# Altium footprint library Pollux III.PcbLib: 36 footprints (part 2 of 3)
Each footprint in its own frame and in the unit in brackets; x right, y up, seen from the top. Pads: shape width x height; smd on the part's side, far side on the other; paste and mask are expansions set on the pad; w line width, h text height; cw(c..) or ccw(c..) is an arc to the next point about the centre after c.
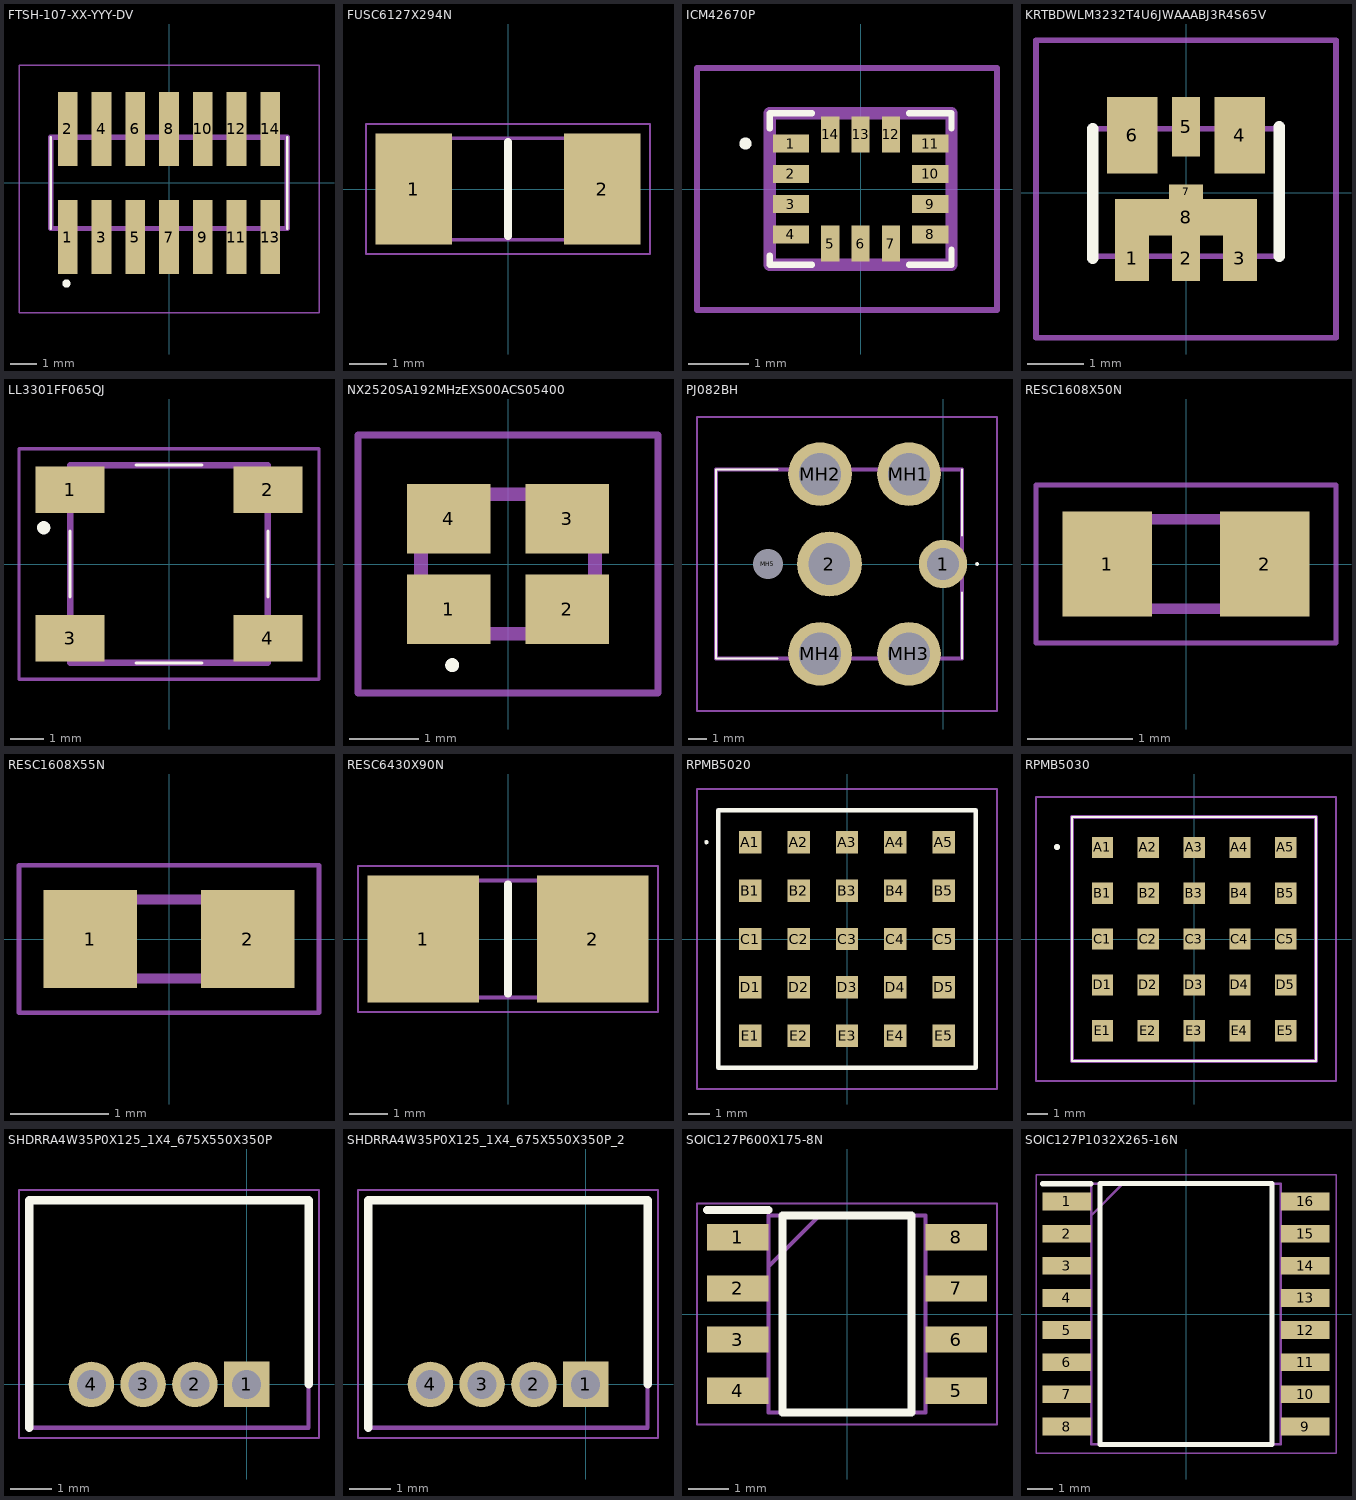
[diagram p1: the footprints below, top view; thin cyan lines are the x and y axes]

## FTSH-107-XX-YYY-DV [mm]
pads (14):
  rect 0.74x2.79 smd: 1(-3.81,-2.035) 2(-3.81,2.035) 3(-2.54,-2.035) 4(-2.54,2.035) 5(-1.27,-2.035) 6(-1.27,2.035) 7(0,-2.035) 8(0,2.035) 9(1.27,-2.035) 10(1.27,2.035) 11(2.54,-2.035) 12(2.54,2.035) 13(3.81,-2.035) 14(3.81,2.035)
Top Overlay:
  circle w0.2: c-3.86,-3.785 r0.05
  lines w0.1: -4.445,-1.715 -4.445,1.715 ; 4.445,-1.715 4.445,1.715
Mechanical 13:
  lines w0.2: -4.445,-1.715 -4.445,1.715 4.445,1.715 4.445,-1.715 -4.445,-1.715
Mechanical 15:
  lines w0.05: -5.645,-4.885 -5.645,4.43 5.645,4.43 5.645,-4.885 -5.645,-4.885
3D body "FTSH-107-01-F-DV.stp": height 5.96, standoff -0.01, extent -4.42,-2.997 4.47,2.845

## FUSC6127X294N [mm]
pads (2):
  rect 2.02x2.95 smd: 1(-2.5,0) 2(2.5,0)
Top Overlay:
  lines w0.2: 0,-1.245 0,1.245
Mechanical 13:
  lines w0.1: -3.05,-1.345 -3.05,1.345 3.05,1.345 3.05,-1.345 -3.05,-1.345
Mechanical 15:
  lines w0.05: -3.76,-1.725 -3.76,1.725 3.76,1.725 3.76,-1.725 -3.76,-1.725
3D body "0451020.MRL.stp": height 2.94, standoff 0, extent -3.05,-1.345 3.05,1.345

## ICM42670P [mm]
pads (14):
  rect 0.6x0.3 smd: 1(-1.15,0.75) 2(-1.15,0.25) 3(-1.15,-0.25) 4(-1.15,-0.75) 8(1.15,-0.75) 9(1.15,-0.25) 10(1.15,0.25) 11(1.15,0.75)
  rect 0.3x0.6 smd: 5(-0.5,-0.9) 6(0,-0.9) 7(0.5,-0.9) 12(0.5,0.9) 13(0,0.9) 14(-0.5,0.9)
Top Overlay:
  lines w0.1: -1.5,-1.1 -1.5,-1.25 -0.8,-1.25 ; -1.5,1 -1.5,1.25 -0.8,1.25 ; 0.8,-1.25 1.5,-1.25 1.5,-1 ; 0.8,1.25 1.5,1.25 1.5,1 ; -1.9,0.7 cw(c-1.9,0.75) -1.9,0.8 cw(c-1.9,0.75) -1.9,0.7
Mechanical 13:
  lines w0.2: -1.5,-1.25 1.5,-1.25 1.5,1.25 -1.5,1.25 -1.5,-1.25
Mechanical 15:
  lines w0.1: -2.7,-2 2.25,-2 2.25,2 -2.7,2 -2.7,-2
3D body "ICM-42670-P.stp": height 0.65, standoff -0.11, extent -1.5,-1.25 1.5,1.25

## KRTBDWLM3232T4U6JWAAABJ3R4S65V [mm]
pads (8):
  rect 0.6x0.8 smd: 1(-0.95,-1.162) 3(0.95,-1.162)
  rect 0.5x0.8 smd: 2(0,-1.162)
  rect 0.9x1.35 smd: 4(0.95,1.012) 6(-0.95,1.012)
  rect 0.5x1.05 smd: 5(0,1.162)
  rect 0.6x0.25 smd: 7(0,0.013)
  rect 2.5x0.65 smd: 8(0,-0.437)
Top Overlay:
  lines w0.2: -1.65,-1.162 -1.65,1.125 ; 1.65,-1.125 1.65,1.162
Mechanical 13:
  lines w0.1: -1.65,-1.125 -1.65,1.125 1.65,1.125 1.65,-1.125 -1.65,-1.125
Mechanical 15:
  lines w0.1: -2.65,-2.563 -2.65,2.688 2.65,2.688 2.65,-2.563 -2.65,-2.563
3D body "KRTB_DWLM32_32_20190603_geometry.STEP": height 0.7, standoff 0, extent -1.65,-1.112 1.65,1.138

## LL3301FF065QJ [mm]
pads (4):
  rect 2.1x1.4 smd: 1(-3,2.25) 2(3,2.25) 3(-3,-2.25) 4(3,-2.25)
Top Overlay:
  lines w0.1: -3,-1 -3,1 ; -1,-3 1,-3 ; -1,3 1,3 ; 3,-1 3,1
  lines w0.2: -3.8,1 cw(c-3.8,1.1) -3.8,1.2 cw(c-3.8,1.1) -3.8,1
Mechanical 13:
  lines w0.2: -3,-3 3,-3 3,3 -3,3 -3,-3
Mechanical 15:
  lines w0.1: -4.55,-3.5 4.55,-3.5 4.55,3.5 -4.55,3.5 -4.55,-3.5
3D body "LL3301_SMD_Button.step": height 3.8, standoff -0.5, extent -5,-3 5,3

## NX2520SA192MHzEXS00ACS05400 [mm]
pads (4):
  rect 1.2x1 smd: 1(-0.85,-0.65) 2(0.85,-0.65) 3(0.85,0.65) 4(-0.85,0.65)
Top Overlay:
  lines w0.1: -0.8,-1.5 cw(c-0.8,-1.45) -0.8,-1.4 cw(c-0.8,-1.45) -0.8,-1.5
Mechanical 13:
  lines w0.2: -1.25,-1 1.25,-1 1.25,1 -1.25,1 -1.25,-1
Mechanical 15:
  lines w0.1: -2.15,-1.85 2.15,-1.85 2.15,1.85 -2.15,1.85 -2.15,-1.85
3D body "NX2520SA-25.000M-STD-CSW-5.stp": height 0.65, standoff 0, extent -1.35,-1.05 1.35,1.05

## PJ082BH [mm]
pads (7):
  round 2.55 hole 1.7: 1(0,0)
  round 3.42 hole 2.193: 2(-6,0)
  round 3.36 hole 2.24: MH1(-1.8,4.75) MH2(-6.5,4.75) MH3(-1.8,-4.75) MH4(-6.5,-4.75)
  round 0.8 hole 1.6 unplated: MH5(-9.25,0)
Top Overlay:
  lines w0.1: -8.75,-5 -12,-5 -12,5 -8.75,5 ; 1,-5 1,-1.5 ; 1,1.5 1,5 ; 1.75,0 ccw(c1.8,0) 1.85,0 ccw(c1.8,0) 1.75,0
Mechanical 13:
  lines w0.2: -12,-5 1,-5 1,5 -12,5 -12,-5
Mechanical 15:
  lines w0.1: -13,-7.76 2.85,-7.76 2.85,7.76 -13,7.76 -13,-7.76
3D body "CUI_DEVICES_PJ-082BH.step": height 9.55, standoff -2.65, extent -12.114,-5.1 1.016,5.1

## RESC1608X50N [mm]
pads (2):
  rect 0.85x1 smd: 1(-0.75,0) 2(0.75,0)
Mechanical 13:
  lines w0.1: -0.788,-0.425 0.788,-0.425 0.788,0.425 -0.788,0.425 -0.788,-0.425
Mechanical 15:
  lines w0.05: -1.425,-0.75 1.425,-0.75 1.425,0.75 -1.425,0.75 -1.425,-0.75
3D body "CRCW0603118KFKEA.stp": height 0.5, standoff 0, extent -0.787,-0.425 0.787,0.425

## RESC1608X55N [mm]
pads (2):
  rect 0.95x1 smd: 1(-0.8,0) 2(0.8,0)
Mechanical 13:
  lines w0.1: -0.8,-0.4 0.8,-0.4 0.8,0.4 -0.8,0.4 -0.8,-0.4
Mechanical 15:
  lines w0.05: -1.525,-0.75 1.525,-0.75 1.525,0.75 -1.525,0.75 -1.525,-0.75
3D body "ERA-3ARB332V.stp": height 0.55, standoff 0, extent -0.8,-0.4 0.8,0.4

## RESC6430X90N [mm]
pads (2):
  rect 2.9x3.3 smd: 1(-2.2,0) 2(2.2,0)
Top Overlay:
  lines w0.2: 0,-1.425 0,1.425
Mechanical 13:
  lines w0.1: -3.175,-1.525 -3.175,1.525 3.175,1.525 3.175,-1.525 -3.175,-1.525
Mechanical 15:
  lines w0.05: -3.9,-1.9 -3.9,1.9 3.9,1.9 3.9,-1.9 -3.9,-1.9
3D body "PCS2512FR0010ET.stp": height 0.9, standoff 0, extent -3.175,-1.525 3.175,1.525

## RPMB5020 [mm]
pads (25):
  rect 1.06x1.06 smd: A1(-4.58,4.58) A2(-2.29,4.58) A3(0,4.58) A4(2.29,4.58) A5(4.58,4.58) B1(-4.58,2.29) B2(-2.29,2.29) B3(0,2.29) B4(2.29,2.29) B5(4.58,2.29) C1(-4.58,0) C2(-2.29,0) C3(0,0) C4(2.29,0) C5(4.58,0) D1(-4.58,-2.29) D2(-2.29,-2.29) D3(0,-2.29) D4(2.29,-2.29) D5(4.58,-2.29) E1(-4.58,-4.58) E2(-2.29,-4.58) E3(0,-4.58) E4(2.29,-4.58) E5(4.58,-4.58)
Top Overlay:
  lines w0.1: -6.7,4.58 ccw(c-6.65,4.58) -6.6,4.58 ccw(c-6.65,4.58) -6.7,4.58
  lines w0.2: -6.095,-6.095 -6.095,6.095 6.095,6.095 6.095,-6.095 -6.095,-6.095
Mechanical 13:
  lines w0.1: -6.095,-6.095 -6.095,6.095 6.095,6.095 6.095,-6.095 -6.095,-6.095
Mechanical 15:
  lines w0.1: -7.095,-7.095 -7.095,7.095 7.095,7.095 7.095,-7.095 -7.095,-7.095
3D body "RPMB5.0-2.0.stp": height 4.1, standoff 0, extent -6.095,-6.095 6.095,6.095

## RPMB5030 [mm]
pads (25):
  rect 1.06x1.06 smd: A1(-4.58,4.58) A2(-2.29,4.58) A3(0,4.58) A4(2.29,4.58) A5(4.58,4.58) B1(-4.58,2.29) B2(-2.29,2.29) B3(0,2.29) B4(2.29,2.29) B5(4.58,2.29) C1(-4.58,0) C2(-2.29,0) C3(0,0) C4(2.29,0) C5(4.58,0) D1(-4.58,-2.29) D2(-2.29,-2.29) D3(0,-2.29) D4(2.29,-2.29) D5(4.58,-2.29) E1(-4.58,-4.58) E2(-2.29,-4.58) E3(0,-4.58) E4(2.29,-4.58) E5(4.58,-4.58)
Top Overlay:
  lines w0.1: -6.1,-6.09 -6.1,6.1 6.09,6.1 6.09,-6.09 -6.1,-6.09
  lines w0.2: -6.905,4.605 ccw(c-6.855,4.605) -6.805,4.605 ; -6.905,4.605 cw(c-6.855,4.605) -6.805,4.605 ; -6.905,4.605 ccw(c-6.855,4.605) -6.805,4.605
Mechanical 13:
  lines w0.2: -6.1,-6.09 -6.1,6.1 6.09,6.1 6.09,-6.09 -6.1,-6.09
Mechanical 15:
  lines w0.1: -7.905,-7.09 -7.905,7.1 7.09,7.1 7.09,-7.09 -7.905,-7.09
3D body "RPMB-3.0.step": height 3.95, standoff -0.02, extent -6.345,-6.192 6.345,6.198

## SHDRRA4W35P0X125_1X4_675X550X350P [mm]
pads (4):
  rect 1.1x1.1 hole 0.7: 1(0,0)
  round 1.1 hole 0.7: 2(-1.25,0) 3(-2.5,0) 4(-3.75,0)
Top Overlay:
  lines w0.2: -5.25,-1.05 -5.25,4.45 1.5,4.45 1.5,0
Mechanical 13:
  lines w0.1: -5.25,-1.05 1.5,-1.05 1.5,4.45 -5.25,4.45 -5.25,-1.05
Mechanical 15:
  lines w0.05: -5.5,-1.3 1.75,-1.3 1.75,4.7 -5.5,4.7 -5.5,-1.3
3D body "53048-0450.stp": height 3.38, standoff -2.42, extent -5.245,-1.055 1.505,4.445

## SHDRRA4W35P0X125_1X4_675X550X350P_2 [mm]
pads (4):
  rect 1.1x1.1 hole 0.7: 1(0,0)
  round 1.1 hole 0.7: 2(-1.25,0) 3(-2.5,0) 4(-3.75,0)
Top Overlay:
  lines w0.2: -5.25,-1.05 -5.25,4.45 1.5,4.45 1.5,0
Mechanical 13:
  lines w0.1: -5.25,-1.05 1.5,-1.05 1.5,4.45 -5.25,4.45 -5.25,-1.05
Mechanical 15:
  lines w0.05: -5.5,-1.3 1.75,-1.3 1.75,4.7 -5.5,4.7 -5.5,-1.3
3D body "53048-0450.stp": height 3.38, standoff -2.42, extent -5.245,-1.055 1.505,4.445

## SOIC127P600X175-8N [mm]
pads (8):
  rect 1.525x0.65 smd: 1(-2.712,1.905) 2(-2.712,0.635) 3(-2.712,-0.635) 4(-2.712,-1.905) 5(2.712,-1.905) 6(2.712,-0.635) 7(2.712,0.635) 8(2.712,1.905)
Top Overlay:
  lines w0.2: -3.475,2.58 -1.95,2.58 ; -1.6,-2.45 1.6,-2.45 1.6,2.45 -1.6,2.45 -1.6,-2.45
Mechanical 13:
  lines w0.1: -1.95,1.18 -0.68,2.45 ; -1.95,-2.45 1.95,-2.45 1.95,2.45 -1.95,2.45 -1.95,-2.45
Mechanical 15:
  lines w0.05: -3.725,-2.75 3.725,-2.75 3.725,2.75 -3.725,2.75 -3.725,-2.75
3D body "NE555DR.stp": height 1.75, standoff 0, extent -3,-2.45 3,2.45

## SOIC127P1032X265-16N [mm]
pads (16):
  rect 1.925x0.7 smd: 1(-4.712,4.445) 2(-4.712,3.175) 3(-4.712,1.905) 4(-4.712,0.635) 5(-4.712,-0.635) 6(-4.712,-1.905) 7(-4.712,-3.175) 8(-4.712,-4.445) 9(4.712,-4.445) 10(4.712,-3.175) 11(4.712,-1.905) 12(4.712,-0.635) 13(4.712,0.635) 14(4.712,1.905) 15(4.712,3.175) 16(4.712,4.445)
Top Overlay:
  lines w0.2: -5.675,5.145 -3.75,5.145 ; -3.4,-5.15 3.4,-5.15 3.4,5.15 -3.4,5.15 -3.4,-5.15
Mechanical 13:
  lines w0.1: -3.75,3.88 -2.48,5.15 ; -3.75,-5.15 3.75,-5.15 3.75,5.15 -3.75,5.15 -3.75,-5.15
Mechanical 15:
  lines w0.05: -5.925,-5.5 5.925,-5.5 5.925,5.5 -5.925,5.5 -5.925,-5.5
3D body "MT25QL512ABB8ESF-0AAT.stp": height 2.65, standoff 0, extent -5.162,-5.15 5.162,5.15